# EAGLE library part 629105136821 (library WR-USB)
WR-USB Mini/Micro Connectors Characteristics Mini and Micro form factors, ideal for space-constrained designs Pin configuration: 5 pins for USB 2.0 / 10 pins for USB 3.x Designed for high cycle durability UL, TID listing for USB standards Applications Mobile and handheld devices Wearables and portable accessories Embedded systems and IoT modules Details see: www.we-online.com/en/components/products/INPUT_OUTPUT_WR_USB_STANDARD Updated by Ella 2024-05-21 2024 (C) Würth Elektronik
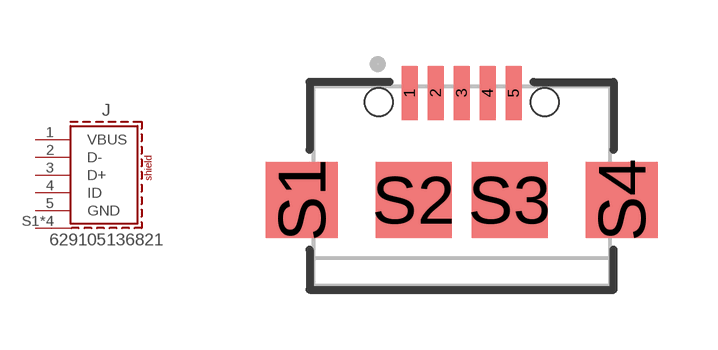
[diagram p16: symbol with the pads of 629105136821; footprint 629105136821]

Designator prefix J

## 629105136821 (APPLICATION: Micro USB 2.0; DATASHEET: https://www.we-online.com/redexpert/spec/629105136821?ae; GERDER: Receptacle; INTERFACE-TYPE: Type B; IR: 1 A; MOUNT: SMT; PACKAGING: Tape and Reel; PART-NUMBER: 629105136821; PINS: 5pcs; TYPE: Horizontal; VALUE: 629105136821; WORKING-VOLTAGE: 30 V (AC))  [629105136821]
1  VBUS  pas
2  D-  pas
3  D+  pas
4  ID  pas
5  GND  pas
S1  SHIELD  pas
S2  SHIELD  pas
S3  SHIELD  pas
S4  SHIELD  pas

## Footprint 629105136821 (pad centres in mm)
WR-USB Mini/Micro Connectors Micro USB 2.0, Type B, Horizontal SMT, 5Pins
smd 0.4 x 1.35: 1 -1.3,2.325; 2 -0.65,2.325; 3 0,2.325; 4 0.65,2.325; 5 1.3,2.325
smd 1.8 x 1.9: S1 -4,-0.35; S4 4,-0.35
smd 1.9 x 1.9: S2 -1.2,-0.35; S3 1.2,-0.35
hole 0.7 at -2.075,2.1
hole 0.7 at 2.075,2.1